# Altium schematic symbol library ATSAMD21G18A-MUT.SCHLIB: 1 symbol
Pins are listed as number, name and electrical type; pins without a type are passive.

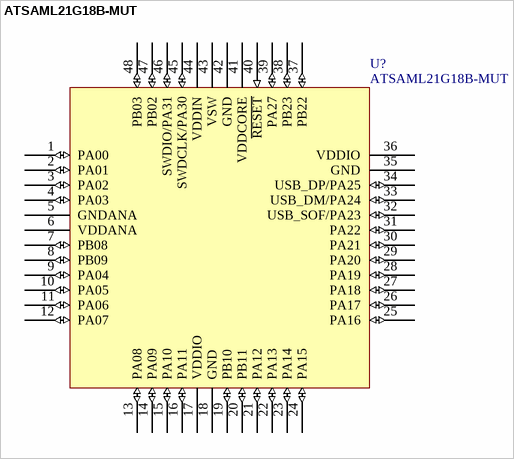
[diagram p0: symbol ATSAML21G18B-MUT]

## ATSAML21G18B-MUT
designator U?
RAM Memory Size: 32768 B; Octopart URL: https://octopart.com/atsaml21g18b-mut-microchip-77761695; RoHS: Compliant; OctopartID: 3cd3f17b952ae314; Manufacturer Part Number: ATSAML21G18B-MUT
footprint QFN50P700X700X90-49N
pins: 1 PA00 (io), 2 PA01 (io), 3 PA02 (io), 4 PA03 (io), 5 GNDANA, 6 VDDANA (power), 7 PB08 (io), 8 PB09 (io), 9 PA04 (io), 10 PA05 (io), 11 PA06 (io), 12 PA07 (io), 13 PA08 (io), 14 PA09 (io), 15 PA10 (io), 16 PA11 (io), 17 VDDIO (power), 18 GND, 19 PB10 (io), 20 PB11 (io), 21 PA12 (io), 22 PA13 (io), 23 PA14 (io), 24 PA15 (io), 25 PA16 (io), 26 PA17 (io), 27 PA18 (io), 28 PA19 (io), 29 PA20 (io), 30 PA21 (io), 31 PA22 (io), 32 USB_SOF/PA23 (io), 33 USB_DM/PA24 (io), 34 USB_DP/PA25 (io), 35 GND, 36 VDDIO (power), 37 PB22 (io), 38 PB23 (io), 39 PA27 (io), 40 ~{RESET} (in), 41 VDDCORE (power), 42 GND, 43 VSW (power), 44 VDDIN (power), 45 SWDCLK/PA30 (io), 46 SWDIO/PA31 (io), 47 PB02 (io), 48 PB03 (io)